# Altium schematic symbol library BMS_Devices.SchLib: 41 symbols
Pins are listed as number, name and electrical type; pins without a type are passive.

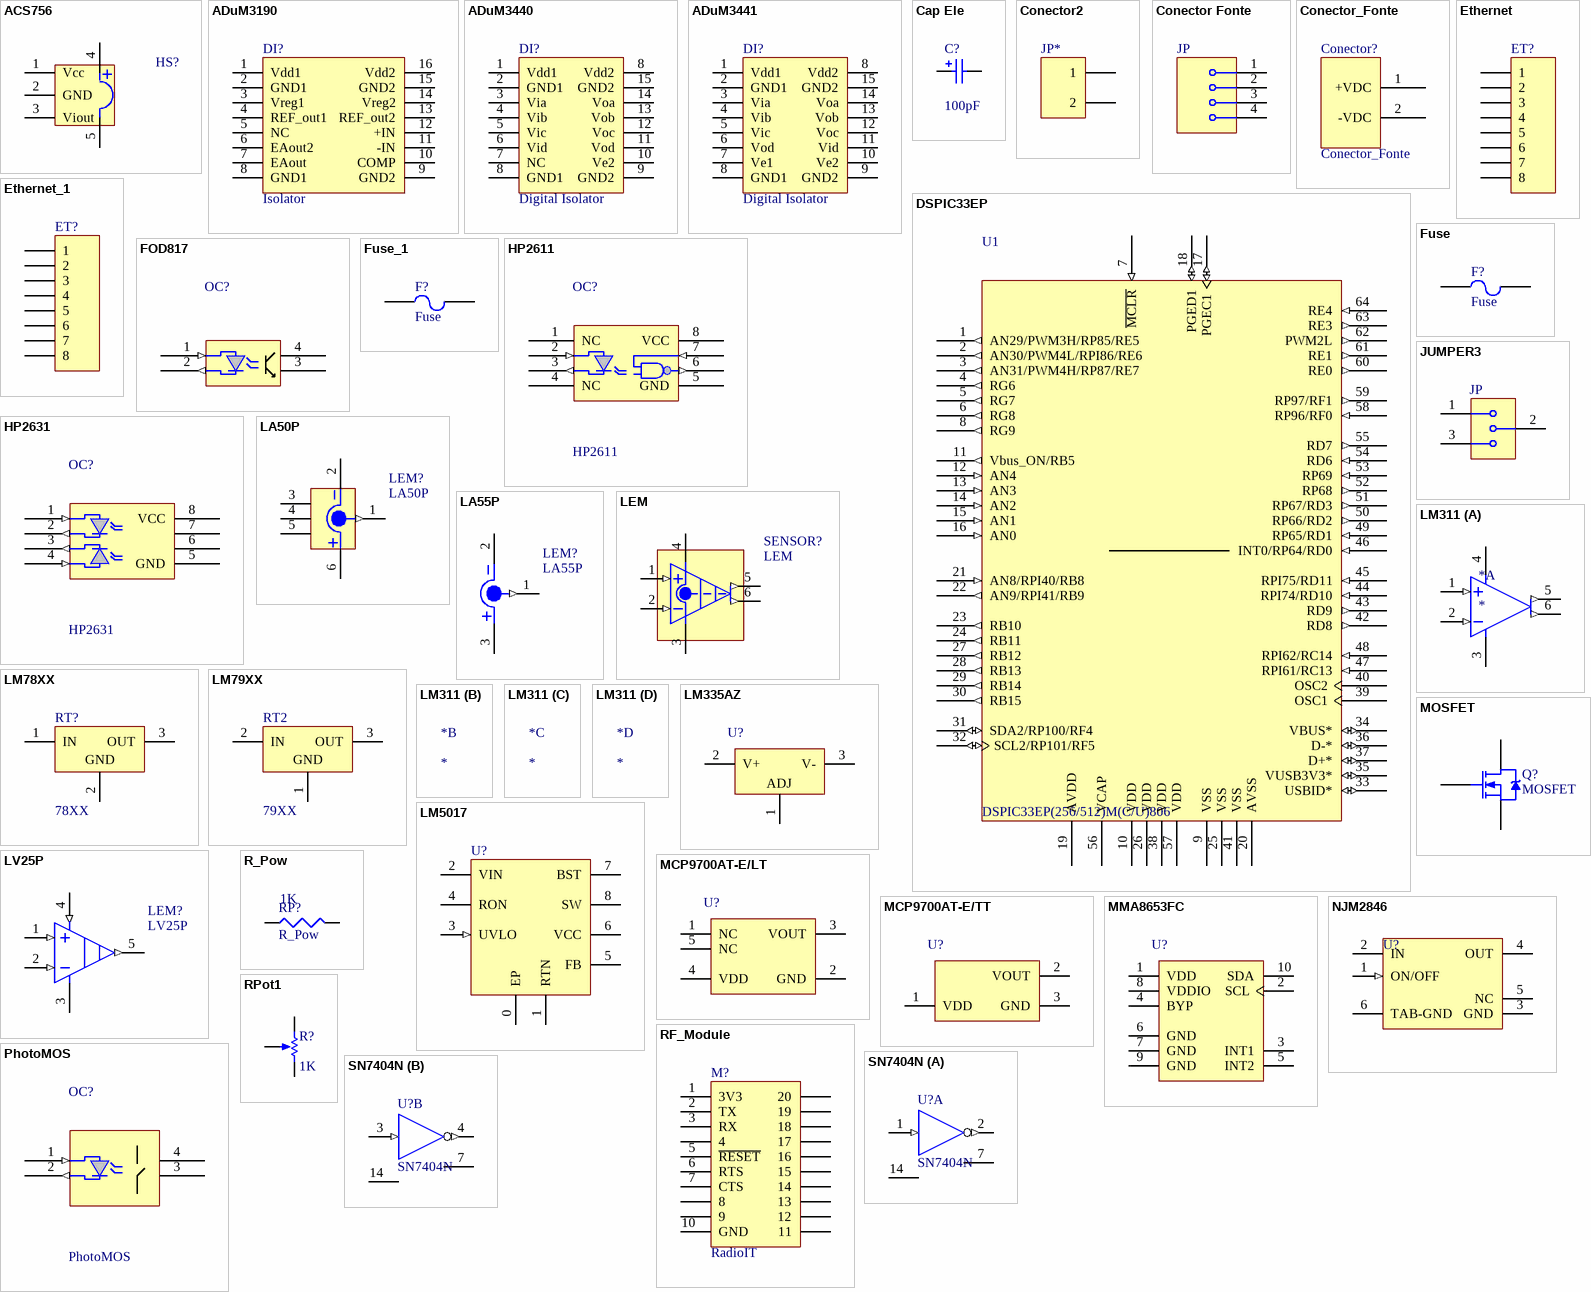
[diagram p0: symbols ACS756 to SN7404N]

## ACS756
designator HS?  (value not drawn)
Current Transducer - Hall Sensor
pins: 1 Vcc (power), 2 GND (power), 3 Viout (power), 4 IP+ (power), 5 IP- (power)

## ADuM3190
designator DI?, comment Isolator
pins: 1 Vdd1, 2 GND1, 3 Vreg1, 4 REF_out1, 5 NC, 6 EAout2, 7 EAout, 8 GND1, 9 GND2, 10 COMP, 11 -IN, 12 +IN, 13 REF_out2, 14 Vreg2, 15 GND2, 16 Vdd2

## ADuM3440
designator DI?, comment Digital Isolator
Quad Channel, High Speed Digital Isolators
pins: 1 Vdd1, 2 GND1, 3 Via, 4 Vib, 5 Vic, 6 Vid, 7 NC, 8 GND1, 8 Vdd2, 9 GND2, 10 Ve2, 11 Vod, 12 Voc, 13 Vob, 14 Voa, 15 GND2

## ADuM3441
designator DI?, comment Digital Isolator
Quad Channel, High Speed Digital Isolators
pins: 1 Vdd1, 2 GND1, 3 Via, 4 Vib, 5 Vic, 6 Vod, 7 Ve1, 8 GND1, 8 Vdd2, 9 GND2, 10 Ve2, 11 Vid, 12 Voc, 13 Vob, 14 Voa, 15 GND2

## Cap Ele
designator C?  value 100pF
Capacitor Eletrolítico; Manufacturer: Generic Components; Class: Passive; Published: 08/06/2000; Publisher: Altium Hobart Technology Centre; SubClass: Capacitor
footprint Cap_ele_2 (Capacitor Eletrolítico)
pins: 1, 2

## Conector2
designator JP*
Conector 2 pinos
footprint TYCO HEADER2 (conector 2 pinos)
pins: 1, 2

## Conector Fonte
designator JP
Fonte 4 elementos
footprint PCB Fonte4 (Fonte externa)
pins: 1 IN1 (power) "GND", 2 IN3 (power) "5V", 3 IN2 (power) "15V", 4 IN2 (power) "GND"

## Conector_Fonte
designator Conector?
footprint PCBComponent_1 (Model Description)
footprint PCBComponent_1 (Model Description)
pins: 1 +VDC (power), 2 -VDC (power)

## DSPIC33EP
designator U1, comment DSPIC33EP(256/512)M(C/U)806
High-Performance 16-bit Digital Signal Controller, 256 KB Flash, 16 KB RAM, 64-Pin TQFP, Industrial Temperature; Published: 29-Jan-2009; DatasheetVersion: revA, May-2007; PackageVersion: revAW, Oct-2008; PackageReference: TQFP-PT64; Publisher: Altium Limited; PackageDescription: 64-Lead Thin Plastic Quad Flat Pack (PT) - 10x10x1mm Body, 2.00mm [TQFP]; Code_JEDEC: MS-026; ComponentLink1Description: Manufacturer Link; ComponentLink1URL: http://www.microchip.com; ComponentLink2Description: Datasheet; ComponentLink2URL: http://ww1.microchip.com/downloads/en/DeviceDoc/70286A.pdf; ComponentLink3Description: Packaging Specification; ComponentLink3URL: http://ww1.microchip.com/downloads/en/PackagingSpec/00049AW.pdf
footprint TQFP-PT64_N (Thin QFP, 64-Leads, Body 10x10mm, Pitch 0.5mm, IPC Medium Density)
footprint TQFP-PT64_L (Thin QFP, 64-Leads, Body 10x10mm, Pitch 0.5mm, IPC High Density)
footprint TQFP-PT64_M (Thin QFP, 64-Leads, Body 10x10mm, Pitch 0.5mm, IPC Low Density)
pins: 1 AN29/PWM3H/RP85/RE5 (out), 2 AN30/PWM4L/RPI86/RE6 (out), 3 AN31/PWM4H/RP87/RE7 (out), 4 RG6 (out), 5 RG7 (out), 6 RG8 (out), 7 ~{MCLR} (in), 8 RG9 (out), 9 VSS (power), 10 VDD (power), 11 Vbus_ON/RB5 (out), 12 AN4 (in), 13 AN3 (in), 14 AN2 (in), 15 AN1 (in), 16 AN0 (in), 17 PGEC1 (io), 18 PGED1 (io), 19 AVDD (power), 20 AVSS (power), 21 AN8/RPI40/RB8 (in), 22 AN9/RPI41/RB9 (out), 23 RB10 (out), 24 RB11 (out), 25 VSS (power), 26 VDD (power), 27 RB12 (out), 28 RB13 (out), 29 RB14 (out), 30 RB15 (out), 31 SDA2/RP100/RF4 (io), 32 SCL2/RP101/RF5 (io), 33 USBID* (io), 34 VBUS* (io), 35 VUSB3V3* (io), 36 D-* (io), 37 D+* (io), 38 VDD (power), 39 OSC1, 40 OSC2, 41 VSS (power), 42 RD8 (out), 43 RD9 (out), 44 RPI74/RD10 (in), 45 RPI75/RD11 (in), 46 INT0/RP64/RD0 (in), 47 RPI61/RC13 (in), 48 RPI62/RC14 (in), 49 RP65/RD1 (in), 50 RP66/RD2 (out), 51 RP67/RD3 (out), 52 RP68 (out), 53 RP69 (in), 54 RD6 (in), 55 RD7 (out), 56 VCAP (power), 57 VDD (power), 58 RP96/RF0 (in), 59 RP97/RF1 (out), 60 RE0 (out), 61 RE1 (out), 62 PWM2L (out), 63 RE3 (out), 64 RE4 (in)

## Ethernet
designator ET?  (value not drawn)
LatestRevisionDate: 17-Jul-2002; LatestRevisionNote: Re-released for DXP Platform.; Publisher: Altium Limited
footprint HDR1X8 (Connector; Header; 8 Position)
signal-integrity model Connector
footprint ETHERNET_SINGLE
pins: 1, 2, 3, 4, 5, 6, 7, 8

## Ethernet_1
designator ET?, comment Ethernet  (value not drawn)
LatestRevisionDate: 17-Jul-2002; LatestRevisionNote: Re-released for DXP Platform.; Publisher: Altium Limited
footprint HDR1X8 (Connector; Header; 8 Position)
signal-integrity model Connector
footprint ETHERNET_SINGLE
pins: 1, 2, 3, 4, 5, 6, 7, 8

## FOD817
designator OC?, comment Optocoupler  (value not drawn)
Optocoupler FOD817
footprint DIP-4 (DIP; 4 Leads; Row Spacing 7.62 mm; Pitch 2.54 mm)
pins: 1 (in), 2 (out), 3, 4

## Fuse
designator F?
Fusível
footprint FUSE (Fusível)
pins: 1, 2

## Fuse_1
designator F?, comment Fuse
Fusível
footprint FUSE (Fusível)
pins: 1, 2

## HP2611
designator OC?
Optocoupler
footprint DIP8 (Model Description)
pins: 1 NC, 2 (in), 3 (out), 4 NC, 5 GND (power), 6 (out), 7 (in), 8 VCC (power)

## HP2631
designator OC?
Optocoupler
footprint DIP8 (Model Description)
pins: 1 Vf1+ (in), 2 Vf1- (out), 3 Vf2- (out), 4 Vf2+ (in), 5 GND (power), 6 (oc), 7 (oc), 8 VCC (power)

## JUMPER3
designator JP
Conector 3 pinos
footprint PCB JUMPER3 (PCB JUMPER 3 pinos)
pins: 1 IN1, 2 IN3, 3 IN2

## LA50P
designator LEM?
Current Transducer
footprint LEM LA50P (Transdutor de Corrente)
pins: 1 M (out), 2 V- (power), 3 NC, 4 NC, 5 NC, 6 V+ (power)

## LA55P
designator LEM?
Current Transducer
footprint LEM LA55P (Transdutor de Corrente)
pins: 1 M (out), 2 V- (power), 3 V+ (power)

## LEM
designator SENSOR?
Voltage or Current Transducer
footprint LEM (LA-55 OU LV-20) (Model Description)
pins: 1 IN+ (in), 2 IN- (in), 3 V- (power), 4 V+ (power), 5 M (out), 6 M (out), 7 V- (power) hidden to V-, 8 V+ (power) hidden to V+

## LM78XX
designator RT?, comment 78XX
Regulador de Tensão
footprint NI LM78XX (Regulador de Tensão com Disspador)
pins: 1 IN (power), 2 GND (power), 3 OUT (power)

## LM79XX
designator RT2, comment 79XX
Regulador de Tensão
footprint LM79XX (Model Description)
pins: 1 GND (power), 2 IN (power), 3 OUT (power)

## LM311
designator *
part A pins: 1 IN+ (in), 2 IN- (in), 3 V- (power), 4 V+ (power), 5 M (out), 6 M (out)

## LM335AZ
designator U?
Precision Temperature Sensor; PartNumber: LM335AZ; Manufacturer: National Semiconductor; CompType: Temp Sensor IC; PackageTopMarking: NSXYTT*LM335*AZ; PowerWise: N; Published: 29-May-2009; DatasheetVersion: Dec-2008; PackageVersion: revG, Sep-2000; PackageReference: Z03A; Publisher: Altium Limited; PackageDescription: TO-92, Molded, 3 Lead; RoHS: O; PinCount: 3; DigiKeyPartNumber: LM335AZ-ND; Code_JEDEC: TO-226-AA; ComponentLink1Description: LM335A Datasheet; ComponentLink1URL: http://www.national.com/ds/LM/LM335.pdf; ComponentLink2Description: LM335A Web Page; ComponentLink2URL: http://www.national.com/pf/LM/LM335A.html; ComponentLink3Description: Z03A Package Page; ComponentLink3URL: http://www.national.com/packaging/folders/z03a.html
footprint Z03A (TO, Flat Index; 3 In-Line, Axial Leads; Body Dia. 5mm; Leads 0.55 x 0.50 mm (max))
pins: 1 ADJ, 2 V+, 3 V-

## LM5017
designator U?
Buck controller with integrated switches; PartNumber: LM2931CS; Manufacturer: National Semiconductor; CompType: LDO IC; PackageTopMarking: NSUZXYTTE#*LM2931CS; PowerWise: N; Published: 4-Dec-2008; DatasheetVersion: Jul-2005; PackageVersion: revD, Apr-2005; PackageReference: TS5B; Publisher: Altium Limited; PackageDescription: TO-263, Molded, .400 x .390 x .180in, 5 Lead, .067in Pitch, Surface Mount; RoHS: Y; PinCount: 5; DigiKeyPartNumber: LM2931CS-ND; Code_JEDEC: MO-169-AB; ComponentLink1Description: LM2931 Datasheet; ComponentLink1URL: http://www.national.com/ds/LM/LM2931.pdf; ComponentLink2Description: LM2931 Web Page; ComponentLink2URL: http://www.national.com/pf/LM/LM2931.html; ComponentLink3Description: TS5B Package Page; ComponentLink3URL: http://www.national.com/packaging/folders/ts5b.html
footprint SO-PowerPAD-8
pins: 0 EP (power), 1 RTN (power), 2 VIN (power), 3 UVLO (in), 4 RON (power), 5 FB, 6 VCC, 7 BST (power), 8 SW

## LV25P
designator LEM?
Voltage Transducer
footprint LEM LV25P (Model Description)
pins: 1 IN+ (in), 2 IN- (in), 3 V- (power), 4 V+ (in), 5 OUT (out)

## MCP9700AT-E/LT
designator U?
Low-Power Linear Active Thermistor IC, 5-Pin SC-70, Extended Temperature, Tape and Reel; Published: 29-Jan-2009; DatasheetVersion: revD, Oct-2007; PackageVersion: revAW, Oct-2008; PackageReference: SC70-LT5; Publisher: Altium Limited; Code_IPC: SOT353-5; ComponentLink1Description: Manufacturer Link; ComponentLink1URL: http://www.microchip.com; ComponentLink2Description: Datasheet; ComponentLink2URL: http://ww1.microchip.com/downloads/en/DeviceDoc/21942d.pdf; ComponentLink3Description: Packaging Specification; ComponentLink3URL: http://ww1.microchip.com/downloads/en/PackagingSpec/00049AW.pdf
footprint SC70-LT5_N (SOT353, 5-Leads, Body 2x1.3mm, Pitch 0.65mm, Lead Span 2.1mm, IPC Medium Density)
footprint SC70-LT5_L (SOT353, 5-Leads, Body 2x1.3mm, Pitch 0.65mm, Lead Span 2.1mm, IPC High Density)
footprint SC70-LT5_M (SOT353, 5-Leads, Body 2x1.3mm, Pitch 0.65mm, Lead Span 2.1mm, IPC Low Density)
pins: 1 NC, 2 GND (power), 3 VOUT (power), 4 VDD (power), 5 NC

## MCP9700AT-E/TT
designator U?
Low-Power Linear Active Thermistor IC, 3-Pin SOT-23, Extended Temperature, Tape and Reel; Published: 29-Jan-2009; DatasheetVersion: revD, Oct-2007; PackageVersion: revAW, Oct-2008; PackageReference: SOT-23-TT3; Publisher: Altium Limited; Code_IPC: SOT23-3; ComponentLink1Description: Manufacturer Link; ComponentLink1URL: http://www.microchip.com; ComponentLink2Description: Datasheet; ComponentLink2URL: http://ww1.microchip.com/downloads/en/DeviceDoc/21942d.pdf; ComponentLink3Description: Packaging Specification; ComponentLink3URL: http://ww1.microchip.com/downloads/en/PackagingSpec/00049AW.pdf
footprint SOT-23-TT3_N (SOT23, 3-Leads, Body 2.9x1.3mm, Pitch 0.95mm, Lead Span 2.4mm, IPC Medium Density)
footprint SOT-23-TT3_L (SOT23, 3-Leads, Body 2.9x1.3mm, Pitch 0.95mm, Lead Span 2.4mm, IPC High Density)
footprint SOT-23-TT3_M (SOT23, 3-Leads, Body 2.9x1.3mm, Pitch 0.95mm, Lead Span 2.4mm, IPC Low Density)
pins: 1 VDD (power), 2 VOUT (power), 3 GND (power)

## MMA8653FC
designator U?
10-bit Digital Accelerometer; Published: 29-Jan-2009; DatasheetVersion: revA, Sep-2007; PackageVersion: revAW, Oct-2008; PackageReference: DFN-MF10; Publisher: Altium Limited; ComponentLink1Description: Manufacturer Link; ComponentLink1URL: http://www.microchip.com; ComponentLink2Description: Datasheet; ComponentLink2URL: http://ww1.microchip.com/downloads/en/DeviceDoc/22060a.pdf; ComponentLink3Description: Packaging Specification; ComponentLink3URL: http://ww1.microchip.com/downloads/en/PackagingSpec/00049AW.pdf
footprint DFN-MF10 (SON, 10-Leads, Body 3x3mm, Pitch 0.5mm, Microchip Recommended)
pins: 1 VDD (power), 2 SCL, 3 INT1, 4 BYP, 5 INT2, 6 GND (power), 7 GND (power), 8 VDDIO, 9 GND (power), 10 SDA

## MOSFET
designator Q?
SOT227; Note: Pin 2 is electrically connected to pin 4.; Published: 8-Jun-2000; LatestRevisionDate: 17-Jul-2002; LatestRevisionNote: Re-released for DXP Platform.; DatasheetVersion: PD-9.325Q; PackageVersion: Feb-1997; PackageReference: TO-220AB; Publisher: Altium Limited; PackageDescription: TO, Thru-Hole, Vertical, Heatsink Mounted; 3 In-Line Leads; Pitch 2.54 mm; ComponentLink1Description: Manufacturer Link; ComponentLink1URL: http://www.irf.com/; ComponentLink2Description: Datasheet; ComponentLink2URL: http://www.irf.com/product-info/datasheets/data/irf510.pdf
footprint SOT-227 (SOT-227; 4 Screw Terminals, 2 Mounting Holes)
pins: 1 G, 2 D, 3 S

## NJM2846
designator U?
JRC Low Dropout Regulators; PartNumber: LM2931CS; Manufacturer: National Semiconductor; CompType: LDO IC; PackageTopMarking: NSUZXYTTE#*LM2931CS; PowerWise: N; Published: 4-Dec-2008; DatasheetVersion: Jul-2005; PackageVersion: revD, Apr-2005; PackageReference: TS5B; Publisher: Altium Limited; PackageDescription: TO-263, Molded, .400 x .390 x .180in, 5 Lead, .067in Pitch, Surface Mount; RoHS: Y; PinCount: 5; DigiKeyPartNumber: LM2931CS-ND; Code_JEDEC: MO-169-AB; ComponentLink1Description: LM2931 Datasheet; ComponentLink1URL: http://www.national.com/ds/LM/LM2931.pdf; ComponentLink2Description: LM2931 Web Page; ComponentLink2URL: http://www.national.com/pf/LM/LM2931.html; ComponentLink3Description: TS5B Package Page; ComponentLink3URL: http://www.national.com/packaging/folders/ts5b.html
footprint TO-252-5 (D-PAK, 6-Leads, Body 6.1x6.5mm, Pitch 1.14mm, Lead Span 9.9mm, IPC High Density)
pins: 1 ON/OFF (in), 2 IN (power), 3 GND (power), 4 OUT (power), 5 NC, 6 TAB-GND (power)

## PhotoMOS
designator OC?
footprint DIP-4 (DIP; 4 Leads; Row Spacing 7.62 mm; Pitch 2.54 mm)
pins: 1 (in), 2 (out), 3, 4

## R_Pow
designator RP?  value 1K
Power Resistor; Published: 8-Jun-2000; LatestRevisionDate: 29-May-2009; LatestRevisionNote: IPC-7351 Footprint Added.; PackageReference: J1-0603; Publisher: Altium Limited; PackageDescription: Chip Resistor
footprint RESC1608L (Chip Resistor, Body 1.6x0.8mm, IPC High Density)
footprint RESC3225L (Chip Resistor, Body 3.2x2.5mm, IPC High Density)
footprint RESC5025L (Chip Resistor, Body 5.0x2.5mm, IPC High Density)
footprint RESC6332L (Chip Resistor, Body 6.3x3.2mm, IPC High Density)
simulation model RESISTOR (Resistor)
signal-integrity model Res
pins: 1, 2

## RF_Module
designator M?, comment RadioIT
RadioIT Module; LatestRevisionDate: 17-Jul-2002; LatestRevisionNote: Re-released for DXP Platform.; Publisher: Altium Limited
footprint BE900 (RadioIT BE900 Radio Transmitter)
signal-integrity model Connector
pins: 1 3V3, 2 TX, 3 RX, 4, 5 ~{RESET}, 6 RTS, 7 CTS, 8, 9, 10 GND, 11, 12, 13, 14, 15, 16, 17, 18, 19, 20

## RPot1
designator R?  value 1K
Potenciometro; Manufacturer: Generic Components; Class: Passive; SubClass: Potentiometer; Set Position: 0.5; Published: 08/06/2000; Publisher: Altium Hobart Technology Centre
footprint VR5 (Potenciometro)
pins: 1 TOP, 2 TAP, 3 BOT

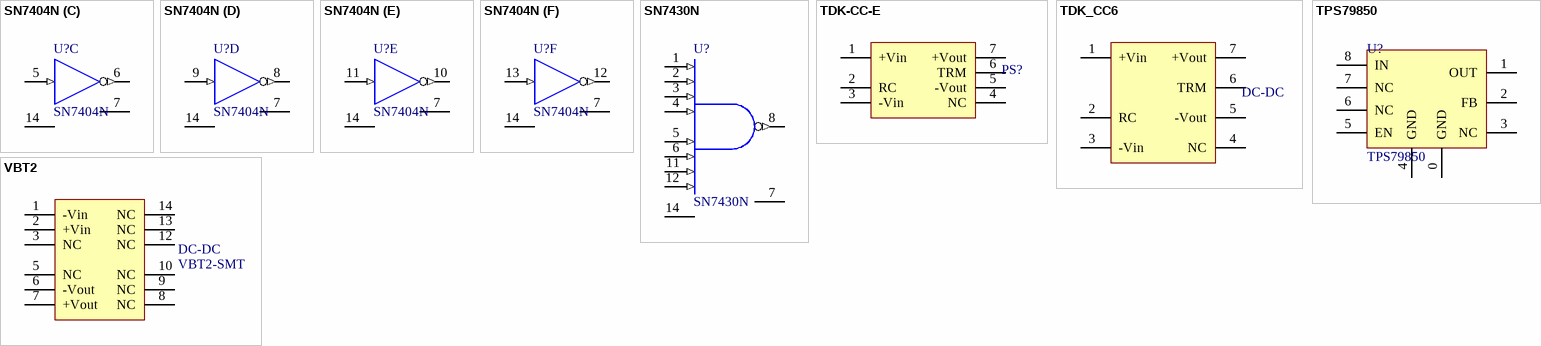
[diagram p1: symbols SN7404N to VBT2]

## SN7404N
designator U?
Hex Inverter; Published: 8-Jun-2000; LatestRevisionDate: 04-Mar-2005; LatestRevisionNote: Stylized 3D Model Added.; DatasheetVersion: Mar-1988; PackageVersion: Oct-1995; PackageReference: N014; Publisher: Altium Limited; PackageDescription: DIP; 14 Leads; Row Spacing 7.62 mm; Pitch 2.54 mm; ComponentLink1Description: Manufacturer Link; ComponentLink1URL: http://www.ti.com/; ComponentLink2Description: Datasheet; ComponentLink2URL: http://www-s.ti.com/sc/ds/sn5404.pdf; ComponentLink3Description: Packaging Specification; ComponentLink3URL: http://focus.ti.com/lit/ml/mpdi002c/mpdi002c.pdf
footprint N014 (DIP; 14 Leads; Row Spacing 7.62 mm; Pitch 2.54 mm)
3D model N014 (PCB3D Model)
signal-integrity model SN7404N
pins on every part: 7 GND (power), 14 5V (power)
part A pins: 1 A (in), 2 Y (out)
part B pins: 3 A (in), 4 Y (out)
part C pins: 5 A (in), 6 Y (out)
part D pins: 8 Y (out), 9 A (in)
part E pins: 10 Y (out), 11 A (in)
part F pins: 12 Y (out), 13 A (in)

## SN7430N
designator U?
8-Input Positive-NAND Gate; Note: Pins 9, 10  and 13 are not connected and not drawn; Published: 8-Jun-2000; LatestRevisionDate: 04-Mar-2005; LatestRevisionNote: Stylized 3D Model Added.; DatasheetVersion: Mar-1988; PackageVersion: Oct-1995; PackageReference: N014; Publisher: Altium Limited; PackageDescription: DIP; 14 Leads; Row Spacing 7.62 mm; Pitch 2.54 mm; ComponentLink1Description: Manufacturer Link; ComponentLink1URL: http://www.ti.com/; ComponentLink2Description: Datasheet; ComponentLink2URL: http://www-s.ti.com/sc/ds/sn54ls30.pdf; ComponentLink3Description: Packaging Specification; ComponentLink3URL: http://focus.ti.com/lit/ml/mpdi002c/mpdi002c.pdf
footprint N014 (DIP; 14 Leads; Row Spacing 7.62 mm; Pitch 2.54 mm)
3D model N014 (DIP; 14 Leads; Row Spacing 7.62 mm; Pitch 2.54 mm)
signal-integrity model SN7430N
pins: 1 A (in), 2 B (in), 3 C (in), 4 D (in), 5 E (in), 6 F (in), 7 GND (power), 8 Y (out), 11 G (in), 12 H (in), 14 5V (power)

## TDK-CC-E
designator PS?  (value not drawn)
Power Supply
pins: 1 +Vin (power), 2 RC (power), 3 -Vin (power), 4 NC (power), 5 -Vout (power), 6 TRM (power), 7 +Vout (power)

## TDK_CC6
designator DC-DC  (value not drawn)
DC-DC Converter Unit
pins: 1 +Vin (power), 2 RC (power), 3 -Vin (power), 4 NC, 5 -Vout (power), 6 TRM (power), 7 +Vout (power)

## TPS79850
designator U?
Positive-Voltage Regulator; Published: 15-Apr-2002; LatestRevisionDate: 13-Apr-2006; LatestRevisionNote: IPC-7351 Footprint Added.; DatasheetVersion: Jul-2000; PackageVersion: Jan-1998; PackageReference: D008; Publisher: Altium Limited; PackageDescription: 8-Pin Small Outline Integrated Circuit 1.27 mm Pitch; Code_IPC: SOIC127P600-8; ComponentLink1Description: Manufacturer Link; ComponentLink1URL: http://www.ti.com/; ComponentLink2Description: Datasheet; ComponentLink2URL: http://www-s.ti.com/sc/ds/ua78l02a.pdf
footprint D008_N (SOIC, 8-Leads, Body 4.9x3.9mm, Pitch 1.27mm, IPC Medium Density)
footprint D008_L (SOIC, 8-Leads, Body 4.9x3.9mm, Pitch 1.27mm, IPC High Density)
footprint D008_M (SOIC, 8-Leads, Body 4.9x3.9mm, Pitch 1.27mm, IPC Low Density)
3D model D008 (8-Pin Small Outline Integrated Circuit 1.27 mm Pitch)
pins: 0 GND "PAD", 1 OUT (power), 2 FB, 3 NC (power), 4 GND, 5 EN (power), 6 NC (power), 7 NC (power), 8 IN (power)

## VBT2
designator DC-DC, comment VBT2-SMT
DC-DC Converter
pins: 1 -Vin (power), 2 +Vin (power), 3 NC (power), 5 NC (power), 6 -Vout (power), 7 +Vout (power), 8 NC (power), 9 NC (power), 10 NC (power), 12 NC (power), 13 NC (power), 14 NC (power)